# Altium schematic symbol library SCH - AMP AUDIO - ANALOG SSM2518CBZ-RL.SchLib: 1 symbol
Pins are listed as number, name and electrical type; pins without a type are passive.

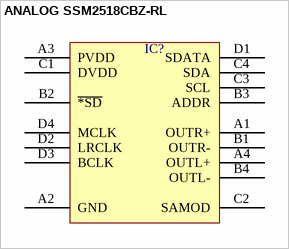
[diagram p0: symbol ANALOG SSM2518CBZ-RL]

## ANALOG SSM2518CBZ-RL
designator IC?  (value not drawn)
pins: A1 OUTR+, A2 GND, A3 PVDD, A4 OUTL+, B1 OUTR-, B2 ~{*SD}, B3 ADDR, B4 OUTL-, C1 DVDD, C2 SAMOD, C3 SCL, C4 SDA, D1 SDATA, D2 LRCLK, D3 BCLK, D4 MCLK